# EAGLE library part HD3SS3412ARUAT (library ruark2)
PCI Express® Switch IC 4 Channel 42-WQFN (3.5x9.0)
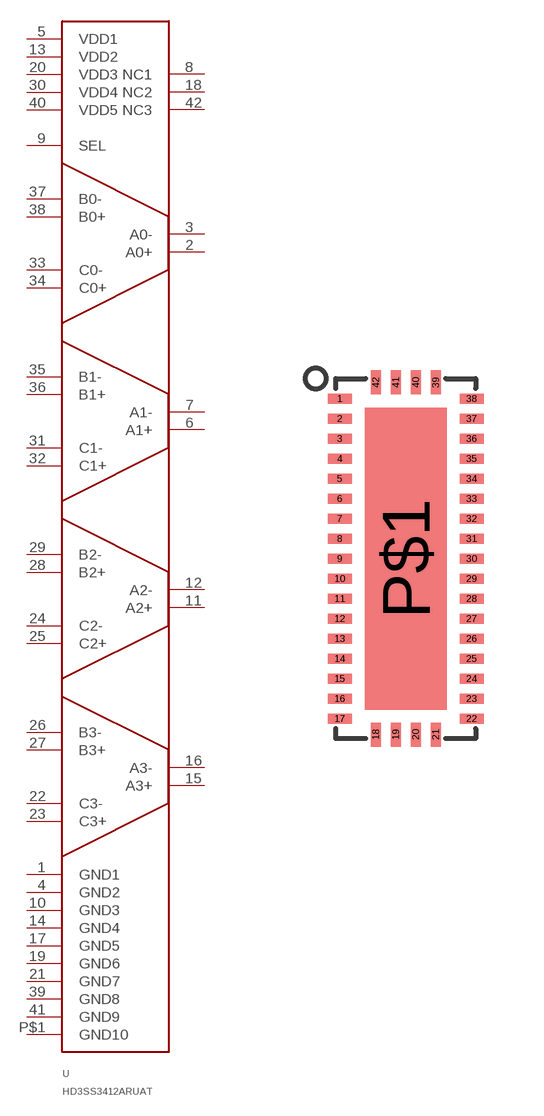
[diagram p156: symbol with the pads of WQFN42; footprint WQFN42]

Designator prefix U

## HD3SS3412ARUAT (PARTNO: 296-HD3SS3412ARUATCT-ND)  [WQFN42]
1  GND1
2  A0+
3  A0-
4  GND2
5  VDD1
6  A1+
7  A1-
8  NC1
9  SEL
10  GND3
11  A2+
12  A2-
13  VDD2
14  GND4
15  A3+
16  A3-
17  GND5
18  NC2
19  GND6
20  VDD3
21  GND7
22  C3-
23  C3+
24  C2-
25  C2+
26  B3-
27  B3+
28  B2+
29  B2-
30  VDD4
31  C1-
32  C1+
33  C0-
34  C0+
35  B1-
36  B1+
37  B0-
38  B0+
39  GND8
40  VDD5
41  GND9
42  NC3
P$1  GND10

## Footprint WQFN42 (pad centres in mm)
smd 0.6 x 0.25: 1 -1.65,4; 2 -1.65,3.5; 3 -1.65,3; 4 -1.65,2.5; 5 -1.65,2; 6 -1.65,1.5; 7 -1.65,1; 8 -1.65,0.5; 9 -1.65,0; 10 -1.65,-0.5; 11 -1.65,-1; 12 -1.65,-1.5; 13 -1.65,-2; 14 -1.65,-2.5; 15 -1.65,-3; 16 -1.65,-3.5; 17 -1.65,-4; 22 1.65,-4; 23 1.65,-3.5; 24 1.65,-3; 25 1.65,-2.5; 26 1.65,-2; 27 1.65,-1.5; 28 1.65,-1; 29 1.65,-0.5; 30 1.65,0; 31 1.65,0.5; 32 1.65,1; 33 1.65,1.5; 34 1.65,2; 35 1.65,2.5; 36 1.65,3; 37 1.65,3.5; 38 1.65,4
smd 0.25 x 0.6: 18 -0.75,-4.4; 19 -0.25,-4.4; 20 0.25,-4.4; 21 0.75,-4.4; 39 0.75,4.4; 40 0.25,4.4; 41 -0.25,4.4; 42 -0.75,4.4
smd 2.05 x 7.55: P$1 0,0